# EAGLE library part MC6809 (library Synapseware-heritage)
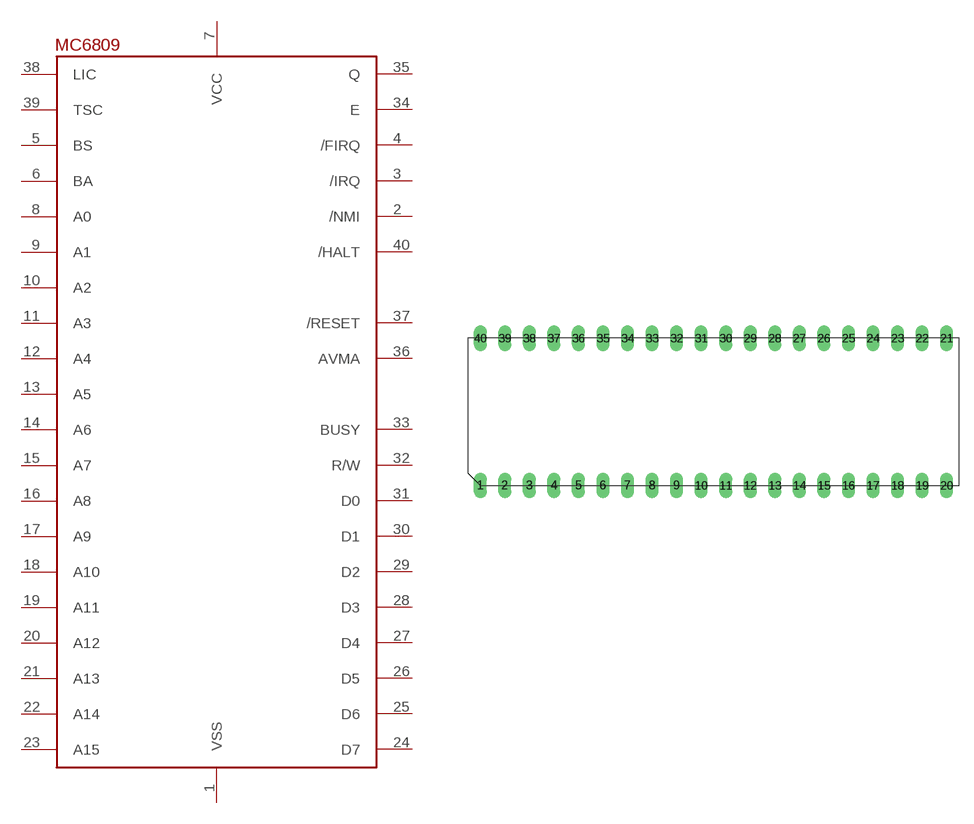
[diagram p3: symbol with the pads of DIL40; footprint DIL40]

Designator prefix -

## MC6809  [DIL40]
1  VSS
2  /NMI
3  /IRQ
4  /FIRQ
5  BS
6  BA
7  VCC
8  A0
9  A1
10  A2
11  A3
12  A4
13  A5
14  A6
15  A7
16  A8
17  A9
18  A10
19  A11
20  A12
21  A13
22  A14
23  A15
24  D7
25  D6
26  D5
27  D4
28  D3
29  D2
30  D1
31  D0
32  R/W
33  BUSY
34  E
35  Q
36  AVMA
37  /RESET
38  LIC
39  TSC
40  /HALT

## Footprint DIL40 (pad centres in mm)
drill 0.813 long: 1 -22.86,-7.62; 2 -20.32,-7.62; 3 -17.78,-7.62; 4 -15.24,-7.62; 5 -12.7,-7.62; 6 -10.16,-7.62; 7 -7.62,-7.62; 8 -5.08,-7.62; 9 -2.54,-7.62; 10 0,-7.62; 11 2.54,-7.62; 12 5.08,-7.62; 13 7.62,-7.62; 14 10.16,-7.62; 15 12.7,-7.62; 16 15.24,-7.62; 17 17.78,-7.62; 18 20.32,-7.62; 19 22.86,-7.62; 20 25.4,-7.62; 21 25.4,7.62; 22 22.86,7.62; 23 20.32,7.62; 24 17.78,7.62; 25 15.24,7.62; 26 12.7,7.62; 27 10.16,7.62; 28 7.62,7.62; 29 5.08,7.62; 30 2.54,7.62; 31 0,7.62; 32 -2.54,7.62; 33 -5.08,7.62; 34 -7.62,7.62; 35 -10.16,7.62; 36 -12.7,7.62; 37 -15.24,7.62; 38 -17.78,7.62; 39 -20.32,7.62; 40 -22.86,7.62